# Altium schematic symbol library 5559ИН14АУ.Schlib: 1 symbol
Pins are listed as number, name and electrical type; pins without a type are passive.

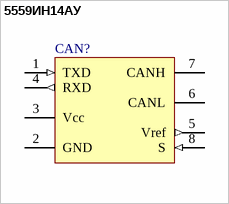
[diagram p0: symbol 5559ИН14АУ]

## 5559ИН14АУ
designator CAN?
CAN 2.0B Driver; Package Information: Latest Revision: ver11.0, Feb-2003; Configures: APEX II, APEX 20K, Mercury, ACEX 1K & FLEX Devices; Code - JEDEC: MS-026-ABA; Published: 17-Sep-2003; Datasheet: Latest Revision: ver1.1, Oct-2003; Package Reference: TQFP32; Publisher: Altium Limited
footprint H02.8-1B
pins: 1 TXD (in), 2 GND (power), 3 Vcc (power), 4 RXD (out), 5 Vref (out), 6 CANL (hiz), 7 CANH (hiz), 8 S (in)